# Altium schematic symbol library IM3332.SchLib: 1 symbol
Pins are listed as number, name and electrical type; pins without a type are passive.

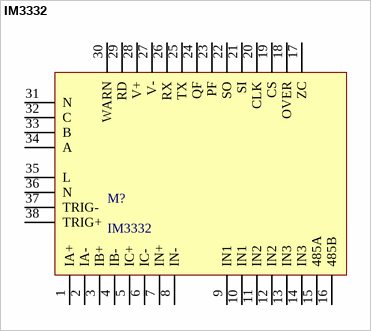
[diagram p0: symbol IM3332]

## IM3332
designator M?
footprint IM3332
pins: 1 IA+, 2 IA-, 3 IB+, 4 IB-, 5 IC+, 6 IC-, 7 IN+, 8 IN-, 9 IN1, 10 IN1, 11 IN2, 12 IN2, 13 IN3, 14 IN3, 15 485A, 16 485B, 17 ZC, 18 OVER, 19 CS, 20 CLK, 21 SI, 22 SO, 23 PF, 24 QF, 25 TX, 26 RX, 27 V-, 28 V+, 29 RD, 30 WARN, 31 N, 32 C, 33 B, 34 A, 35 L, 36 N, 37 TRIG-, 38 TRIG+